# EAGLE library part TPS565201DDCR (library TPS565201DDCR)
Check prices <https://pricing.snapeda.com/parts/TPS565201DDCR/Texas%20Instruments/view-part?ref=eda>
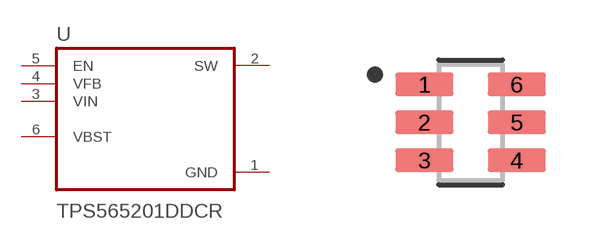
[diagram p0: symbol with the pads of SOT95P280X110-6N; footprint SOT95P280X110-6N]

Designator prefix U

## TPS565201DDCR (AVAILABILITY: Warning; DESCRIPTION: 4.5V to 17V, 5A, Synchronous Step-Down Voltage Regulator in SOT23 6-SOT-23-THIN -40 to 125; MF: Texas Instruments; MP: TPS565201DDCR; PACKAGE: SOT-23-THN-6 Texas Instruments; PRICE: None; PURCHASE-URL: https://pricing.snapeda.com/search/part/TPS565201DDCR/?ref=eda)  [SOT95P280X110-6N]
1  GND  pwr
2  SW  out
3  VIN  in
4  VFB  in
5  EN  in
6  VBST

## Footprint SOT95P280X110-6N (pad centres in mm)
smd 1.45 x 0.59: 1 -1.155,0.95; 2 -1.155,0; 3 -1.155,-0.95; 4 1.155,-0.95; 5 1.155,0; 6 1.155,0.95